# Altium schematic symbol library NIM_to_LVCMOS_Schlib.SchLib: 31 symbols
Pins are listed as number, name and electrical type; pins without a type are passive.

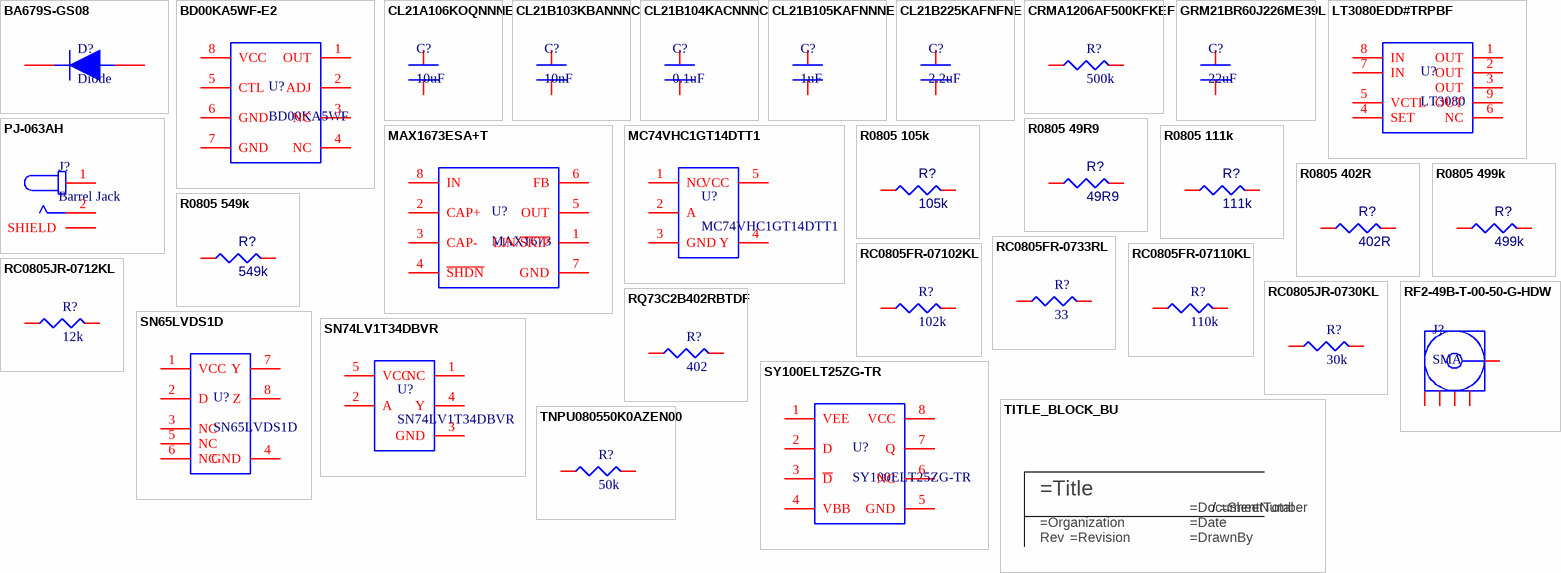
[diagram p0: symbols BA679S-GS08 to TNPU080550K0AZEN00]

## BA679S-GS08
designator D?, comment Diode
Diode PIN Attenuator 30V 2-Pin Mini-MELF SOD-80 T/R; Manufacturer: Vishay Semiconductors; Manufacturer Part Number: BA679S-GS08; Forward Voltage: 1V; Forward Current: 50mA; Current Rating: 50A; Element Configuration: Single; Diode Type: PIN - Single; Supplier 1: Digi-Key; RoHS: Yes; Category: Diodes; Stock 1: 7528; Pricing 1: 1=0.53000, 10=0.43000, 100=0.29270, 500=0.21954, 1000=0.16466 (USD); Mount: Surface Mount; Number of Pins: 2; Contact Plating: Tin,Silver; Min Operating Temperature: -55°C; Max Operating Temperature: 125°C; Packaging: Tape and Reel; Package Quantity: 2500; Reverse Voltage (DC): 30V; Max Current Rating: 50mA; Max Repetitive Reverse Voltage (Vrrm): 30V; Reverse Voltage: 30V; Series: -; RoHS Compliant: Yes; ComponentLink1URL: https://datasheet.ciiva.com/1240/1749354-1240855.pdf?src-supplier=Newark; ComponentLink1Description: https://datasheet.ciiva.com/1240/1749354-1240855.pdf?src-supplier=Newark; ComponentLink2URL: https://datasheet.ciiva.com/9424/ba679-9424319.pdf?src-supplier=Avnet; ComponentLink2Description: https://datasheet.ciiva.com/9424/ba679-9424319.pdf?src-supplier=Avnet; ComponentLink3URL: https://datasheet.ciiva.com/1179/ba679-1179241.pdf?src-supplier=Element14; ComponentLink3Description: https://datasheet.ciiva.com/1179/ba679-1179241.pdf?src-supplier=Element14; Supplier Part Number 1: 112-BA679S-GS08CT-ND
footprint BA679S-GS08 (MELF Diode, 2-Leads, Body 3.50x1.50mm, IPC Medium Density)
pins: 1, 2

## BD00KA5WF-E2
designator U?, comment BD00KA5WF
LDO Regulator Pos 1V to 4V 0.5A Automotive 8-Pin SOP T/R; Manufacturer: Rohm; Manufacturer Part Number: BD00KA5WF-E2; Output Current: 500mA; Dropout Voltage: 120mV; Number of Outputs: 1; Min Input Voltage: 2.3V; Max Input Voltage: 5.5V; Max Power Dissipation: 687.6mW; Reference Voltage: 758mV; Polarity: Positive; Output Type: Adjustable; Supplier 1: Digi-Key; RoHS: Yes; Category: Voltage Regulators - Linear; Stock 1: 9113; Pricing 1: 1=1.69000, 10=1.50700, 25=1.43040, 100=1.17510, 250=1.09848, 500=0.97074, 1000=0.76638 (USD); Mount: Surface Mount; Case/Package: SOP; Number of Pins: 8; Contact Plating: Copper,Tin; Min Operating Temperature: -40°C; Max Operating Temperature: 105°C; Packaging: Tape and Reel; Max Output Current: 500mA; Output Voltage: 4V; Package Quantity: 1; Number of Regulators: 1; Min Output Voltage: 1V; Max Output Voltage: 4V; Series: -; Radiation Hardening: No; Lead Free: Lead Free; RoHS Compliant: Yes; ComponentLink1URL: https://datasheet.ciiva.com/26878/getdatasheetpartid-457808-26878767.pdf?src-supplier=Verical; ComponentLink1Description: https://datasheet.ciiva.com/26878/getdatasheetpartid-457808-26878767.pdf?src-supplier=Verical; ComponentLink2URL: https://datasheet.ciiva.com/22732/1747249-22732896.pdf?src-supplier=Element14; ComponentLink2Description: https://datasheet.ciiva.com/22732/1747249-22732896.pdf?src-supplier=Element14; ComponentLink3URL: https://datasheet.ciiva.com/2040/bdxxka5-e-2040541.pdf?src-supplier=Digi-Key; ComponentLink3Description: https://datasheet.ciiva.com/2040/bdxxka5-e-2040541.pdf?src-supplier=Digi-Key; ComponentLink4URL: https://datasheet.ciiva.com/2040/bdxxka5-e-2040542.pdf?src-supplier=Digi-Key; ComponentLink4Description: https://datasheet.ciiva.com/2040/bdxxka5-e-2040542.pdf?src-supplier=Digi-Key; ComponentLink5URL: https://datasheet.ciiva.com/2040/bdxxka5-e-2040543.pdf?src-supplier=Digi-Key; ComponentLink5Description: https://datasheet.ciiva.com/2040/bdxxka5-e-2040543.pdf?src-supplier=Digi-Key; Supplier Part Number 1: BD00KA5WF-E2CT-ND
footprint BD00KA5WF-E2 (TSOP, 8-Leads, Body 5.00x4.40mm, Pitch 1.27mm, IPC Medium Density)
pins: 1 OUT, 2 ADJ, 3 NC, 4 NC, 5 CTL, 6 GND, 7 GND, 8 VCC

## CL21A106KOQNNNE
designator C?, comment 10uF
CAP CER 10UF 25V X7R 0805; Manufacturer: Samsung; Manufacturer Part Number: CL21A106KOQNNNE; Tolerance: 10%; Voltage Rating: 16V; Supplier 1: Newark; RoHS: Yes; Category: Ceramic Capacitors; Stock 1: 82000; Pricing 1: 1=0.00800, 2000=0.00800, 4000=0.00800 (USD); Mount: Surface Mount; Case/Package: 0805; Case Code (Metric): 2012; Case Code (Imperial): 0805; Min Operating Temperature: -55°C; Max Operating Temperature: 85°C; Package Quantity: 1; Packaging: Tape and Reel; Capacitance: 10uF; Dielectric: X7R; Voltage Rating (DC): 16V; Series: CL; Construction: Flat; Voltage: 16V; Length: 2mm; Width: 0.049inch; Height: 1.25mm; Thickness: 0.055inch; Depth: 1.25mm; Radiation Hardening: No; Lead Free: Lead Free; RoHS Compliant: Yes; Supplier Part Number 1: 82AC9390
footprint CL21A106KOQNNNE (10uF Chip Capacitor, 2-Leads, Body 2.00x1.25mm, IPC Medium Density)
pins: 1, 2

## CL21B103KBANNNC
designator C?, comment 10nF
CAP CER 10000PF 50V X7R 0805; Manufacturer: Samsung; Manufacturer Part Number: CL21B103KBANNNC; Material: Ceramic; Tolerance: 10%; Supplier 1: Newark; RoHS: Yes; Category: Ceramic Capacitors; Stock 1: 28000; Pricing 1: 1=0.00800, 4000=0.00800 (USD); Mount: Surface Mount; Case/Package: 0805; Case Code (Metric): 2012; Case Code (Imperial): 0805; Contact Plating: Tin; Min Operating Temperature: -55°C; Max Operating Temperature: 125°C; Capacitance: 10nF; Dielectric: X7R; Voltage: 50V; Voltage Rating (DC): 50V; Packaging: Tape and Reel; Voltage Rating: 50V; Series: CL; Construction: Flat; Length: 2mm; Width: 0.049inch; Height: 0.65mm; Depth: 1.25mm; Thickness: 0.03inch; Radiation Hardening: No; Lead Free: Lead Free; RoHS Compliant: Yes; ComponentLink1URL: https://datasheet.ciiva.com/25709/cl21b103kbannnc-25709781.pdf?src-supplier=Digi-Key; ComponentLink1Description: https://datasheet.ciiva.com/25709/cl21b103kbannnc-25709781.pdf?src-supplier=Digi-Key; ComponentLink2URL: https://datasheet.ciiva.com/29199/455082-da-01-en-vs-kondensator-0805-29199459.pdf?src-supplier=Conrad; ComponentLink2Description: https://datasheet.ciiva.com/29199/455082-da-01-en-vs-kondensator-0805-29199459.pdf?src-supplier=Conrad; Supplier Part Number 1: 82AC9416
footprint CL21B103KBANNNC (10nF Chip Capacitor, 2-Leads, Body 2.00x1.25mm, IPC Medium Density)
pins: 1, 2

## CL21B104KACNNNC
designator C?, comment 0.1uF
CAP CER 0.1UF 25V X7R 0805; Manufacturer: Samsung; Manufacturer Part Number: CL21B104KACNNNC; Capacitance: 100nF; Tolerance: 10%; Supplier 1: Newark; RoHS: Yes; Category: Ceramic Capacitors; Stock 1: 16000; Pricing 1: 1=0.00700, 4000=0.00700 (USD); Mount: Surface Mount; Case/Package: 0805; Case Code (Metric): 2012; Case Code (Imperial): 0805; Contact Plating: Tin; Min Operating Temperature: -55°C; Max Operating Temperature: 125°C; Dielectric: X7R; Package Quantity: 1; Packaging: Tape and Reel; Voltage Rating: 25V; Voltage: 25V; Series: CL; Construction: Flat; Length: 2mm; Width: 0.049inch; Height: 0.85mm; Depth: 1.25mm; Thickness: 0.037inch; Radiation Hardening: No; RoHS Compliant: Yes; ComponentLink1URL: https://datasheet.ciiva.com/25801/cl21b104kacnnnc-25801824.pdf?src-supplier=Digi-Key; ComponentLink1Description: https://datasheet.ciiva.com/25801/cl21b104kacnnnc-25801824.pdf?src-supplier=Digi-Key; ComponentLink2URL: https://datasheet.ciiva.com/15216/getdatasheetpartid-355204-15216236.pdf?src-supplier=Verical; ComponentLink2Description: https://datasheet.ciiva.com/15216/getdatasheetpartid-355204-15216236.pdf?src-supplier=Verical; Supplier Part Number 1: 82AC9426
footprint CL21B104KACNNNC (0.1uF Chip Capacitor, 2-Leads, Body 2.00x1.25mm, IPC Medium Density)
pins: 1, 2

## CL21B105KAFNNNE
designator C?, comment 1uF
CAP CER 1UF 25V X7R 0805; Manufacturer: Samsung; Manufacturer Part Number: CL21B105KAFNNNE; Tolerance: 10%; Supplier 1: Newark; RoHS: Yes; Category: Ceramic Capacitors; Stock 1: 8000; Pricing 1: 1=0.01400, 40000=0.01100, 44000=0.01100, 84000=0.01000 (USD); Mount: Surface Mount; Case/Package: 0805; Case Code (Metric): 2012; Case Code (Imperial): 0805; Contact Plating: Tin; Min Operating Temperature: -55°C; Max Operating Temperature: 125°C; Capacitance: 1uF; Dielectric: X7R; Voltage: 25V; Voltage Rating (DC): 25V; Packaging: Tape and Reel; Voltage Rating: 25V; Package Quantity: 1; Series: CL; Construction: Flat; Length: 2mm; Width: 0.049inch; Height: 1.25mm; Depth: 1.25mm; Thickness: 0.053inch; Radiation Hardening: No; Lead Free: Lead Free; RoHS Compliant: Yes; ComponentLink1URL: https://datasheet.ciiva.com/25800/cl21b105kafnnne-25800163.pdf?src-supplier=Digi-Key; ComponentLink1Description: https://datasheet.ciiva.com/25800/cl21b105kafnnne-25800163.pdf?src-supplier=Digi-Key; ComponentLink2URL: https://datasheet.ciiva.com/15195/getdatasheetpartid-355205-15195880.pdf?src-supplier=Verical; ComponentLink2Description: https://datasheet.ciiva.com/15195/getdatasheetpartid-355205-15195880.pdf?src-supplier=Verical; Supplier Part Number 1: 82AC9434
footprint CL21B105KAFNNNE (1uF Chip Capacitor, 2-Leads, Body 2.00x1.25mm, IPC Medium Density)
pins: 1, 2

## CL21B225KAFNFNE
designator C?, comment 2.2uF
CAP CER 2.2UF 25V X7R 0805; Manufacturer: Samsung; Manufacturer Part Number: CL21B225KAFNFNE; Tolerance: 10%; Supplier 1: Avnet; RoHS: Yes; Category: Ceramic Capacitors; Stock 1: 46000; Pricing 1: 2000=0.02328, 4000=0.02275, 8000=0.02221, 12000=0.02168, 16000=0.02114 (USD); Mount: Surface Mount; Case/Package: 0805; Case Code (Metric): 2012; Case Code (Imperial): 0805; Min Operating Temperature: -55°C; Max Operating Temperature: 125°C; Package Quantity: 1; Packaging: Tape and Reel; Capacitance: 2.2uF; Voltage Rating: 25V; Dielectric: X7R; Series: CL; Construction: Flat; Length: 0.079inch; Width: 0.049inch; Height: 1.25mm; Thickness: 0.053inch; Depth: 1.25mm; Radiation Hardening: No; Lead Free: Lead Free; RoHS Compliant: Yes; ComponentLink1URL: https://datasheet.ciiva.com/25798/cl21b225kafnfne-25798721.pdf?src-supplier=Digi-Key; ComponentLink1Description: https://datasheet.ciiva.com/25798/cl21b225kafnfne-25798721.pdf?src-supplier=Digi-Key; Supplier Part Number 1: CL21B225KAFNFNE
footprint CL21B225KAFNFNE (2.2uF Chip Capacitor, 2-Leads, Body 2.00x1.25mm, IPC Medium Density)
pins: 1, 2

## CRMA1206AF500KFKEF
designator R?, comment 500k
Res Thick Film 1206 500K Ohm 1% 0.3W ±100ppm/°C Pad SMD Automotive T/R; Manufacturer: Vishay BCcomponents; Manufacturer Part Number: CRMA1206AF500KFKEF; Resistance: 500kR; Max Power Dissipation: 300mW; Supplier 1: Newark; RoHS: No; Category: Chip SMD Resistors; Stock 1: 6690; Pricing 1: 10=0.51800, 25=0.43700, 50=0.35700, 100=0.27600 (USD); Case/Package: 1206; Case Code (Imperial): 1206; Case Code (Metric): 3216; Min Operating Temperature: -55°C; Max Operating Temperature: 155°C; Resistor Type: Thick Film; Features: Automotive AEC-Q200; Packaging: Cut Tape; Tolerance: 1%; Temperature Coefficient: 100ppm/°C; Number of Terminations: 2; ComponentLink1URL: https://www.vishay.com/docs/68043/crma.pdf?src-supplier=Digi-Key; ComponentLink1Description: https://www.vishay.com/docs/68043/crma.pdf?src-supplier=Digi-Key; Supplier Part Number 1: 71AH3168
footprint CRMA1206AF500KFKEF (500k Chip Resistor, 2-Leads, Body 3.18x1.60mm, IPC Medium Density)
pins: 1, 2

## GRM21BR60J226ME39L
designator C?, comment 22uF
Multilayer Ceramic Capacitors MLCC Surface Mount 0805 22uF 6.3 Volts X5R 20%; Manufacturer: Murata; Manufacturer Part Number: GRM21BR60J226ME39L; Voltage Rating: 6.3V; Supplier 1: Newark; RoHS: Yes; Category: Ceramic Capacitors; Stock 1: 5011; Pricing 1: 1=0.30000, 25=0.16900, 50=0.14500, 100=0.12100, 250=0.10500, 500=0.08800 (USD); Mount: Surface Mount; Case/Package: 0805; Case Code (Metric): 2012; Case Code (Imperial): 0805; Material: Ceramic; Min Operating Temperature: -55°C; Max Operating Temperature: 85°C; Capacitance: 22uF; Tolerance: 20%; Packaging: Tape and Reel; Package Quantity: 1; Voltage Rating (DC): 6.3V; Termination: SMD/SMT; Voltage: 6.3V; Series: GRM; Construction: Flat; Dielectric: X5R; Length: 2mm; Width: 0.049inch; Height: 1.25mm; Depth: 1.25mm; Thickness: 0.053inch; Radiation Hardening: No; Reach SVHC Compliant: Yes; Lead Free: Lead Free; RoHS Compliant: Yes; Supplier Part Number 1: 24R6338
footprint GRM21BR60J226ME39L (22uF Chip Capacitor, 2-Leads, Body 2.00x1.25mm, IPC Medium Density)
pins: 1, 2

## LT3080EDD#TRPBF
designator U?, comment LT3080
IC REG LDO ADJ 1.1A 8DFN; Manufacturer: Analog Devices / Linear Technology; Manufacturer Part Number: LT3080EDD#TRPBF; Output Voltage: 36V; Number of Outputs: 1; Dropout Voltage: 1.35V; Min Input Voltage: 1.2V; Polarity: Positive; Quiescent Current: 500uA; Output Voltage Accuracy: 1%; Operating Supply Current: 300uA; Supplier 1: Digi-Key; RoHS: Yes; Category: Voltage Regulators - Linear; Stock 1: 45974; Pricing 1: 1=6.40000, 10=5.75200, 25=5.43760, 100=4.71280, 250=4.47108, 500=4.01188, 1000=3.42000 (USD); Case/Package: DFN; Number of Pins: 8; Min Operating Temperature: -40°C; Max Operating Temperature: 125°C; Output Current: 1.1A; Package Quantity: 1; Packaging: Tape and Reel; Max Input Voltage: 36V; Number of Regulators: 1; Min Current Limit: 1.1A; Series: -; RoHS Compliant: Yes; ComponentLink1URL: https://datasheet.ciiva.com/2041/25276-2041434.pdf?src-supplier=Digi-Key; ComponentLink1Description: https://datasheet.ciiva.com/2041/25276-2041434.pdf?src-supplier=Digi-Key; ComponentLink2URL: https://datasheet.ciiva.com/2041/25276-2041435.pdf?src-supplier=Digi-Key; ComponentLink2Description: https://datasheet.ciiva.com/2041/25276-2041435.pdf?src-supplier=Digi-Key; Supplier Part Number 1: LT3080EDD#TRPBFCT-ND
footprint LT3080EDD (SON, 8-Leads, Body 3.00x3.00mm, Pitch 0.50mm, Thermal Pad 2.38x0.99mm, IPC Medium Density)
pins: 1 OUT, 2 OUT, 3 OUT, 4 SET, 5 VCTL, 6 NC, 7 IN, 8 IN, 9 OUT

## MAX1673ESA+T
designator U?, comment MAX1673
5.5 V 125 mA 460kHz Charge Pump SMT Switching Regulator - SOIC-8; Manufacturer: Maxim; Manufacturer Part Number: MAX1673ESA+T; Output Voltage: -3.15V; Logic Function: Inverting; Number of Outputs: 1; Max Input Voltage: 5.5V; Output Current: 125mA; Switching Frequency: 350kHz; Synchronous Rectifier: No; Output Type: Adjustable; Supplier 1: Arrow Electronics; RoHS: Yes; Category: Voltage Regulators - Switching; Stock 1: 1576; Pricing 1: 1=6.45840, 10=5.76150, 25=5.40040, 100=4.64370, 250=4.36660, 500=3.88360, 1000=3.47760 (USD); Mount: Surface Mount; Case/Package: SOIC; Min Operating Temperature: -40°C; Max Operating Temperature: 85°C; Package Quantity: 2500; Packaging: Tape and Reel; Series: -; Width: 4mm; Radiation Hardening: No; Lead Free: Lead Free; RoHS Compliant: Yes; ComponentLink1URL: https://datasheet.ciiva.com/24013/max1673-85133-24013456.pdf?src-supplier=Mouser; ComponentLink1Description: https://datasheet.ciiva.com/24013/max1673-85133-24013456.pdf?src-supplier=Mouser; ComponentLink2URL: https://datasheet.ciiva.com/3216/max1673-3216094.pdf?src-supplier=Avnet; ComponentLink2Description: https://datasheet.ciiva.com/3216/max1673-3216094.pdf?src-supplier=Avnet; ComponentLink3URL: https://datasheet.ciiva.com/2037/max1673-2037237.pdf?src-supplier=Digi-Key; ComponentLink3Description: https://datasheet.ciiva.com/2037/max1673-2037237.pdf?src-supplier=Digi-Key; Supplier Part Number 1: MAX1673ESA+T
footprint MAX1673ESA+T (SOIC, 8-Leads, Body 4.90x3.90mm, Pitch 1.27mm, IPC Medium Density)
pins: 1 LIN/~{SKIP}, 2 CAP+, 3 CAP-, 4 ~{SHDN}, 5 OUT, 6 FB, 7 GND, 8 IN

## MC74VHC1GT14DTT1
designator U?
Inverter Schmitt Trigger Sgl Cmos 5TSOP; Manufacturer: ON Semiconductor; Max Supply Voltage: 5.5V; Min Supply Voltage: 3V; Number of Inputs: 1; Output Current: 8mA; Logic Function: Schmitt Trigger,Inverter; High Level Output Current: -8mA; Supplier 1: Mouser; Manufacturer Part Number: MC74VHC1GT14DTT1; RoHS: No; Category: Logic Gates; Case/Package: SOT-23-5; Number of Pins: 5; Min Operating Temperature: -55°C; Max Operating Temperature: 125°C; Package Quantity: 3000; Packaging: Tape and Reel; Number of Circuits: 1; Low Level Output Current: 8mA; Number of Gates: 1; RoHS Compliant: No; Reach SVHC Compliant: Yes; Lead Free: Contains Lead; ComponentLink1URL: https://datasheet.ciiva.com/4828/mc74vhc1gt14-d-107443-4828755.pdf?src-supplier=Mouser; ComponentLink1Description: https://datasheet.ciiva.com/4828/mc74vhc1gt14-d-107443-4828755.pdf?src-supplier=Mouser; ComponentLink2URL: https://datasheet.ciiva.com/7970/mc74vhc1gt14-d-7970445.pdf?src-supplier=Element14; ComponentLink2Description: https://datasheet.ciiva.com/7970/mc74vhc1gt14-d-7970445.pdf?src-supplier=Element14; Supplier Part Number 1: 863-MC74VHC1GT14DTT1
footprint MC74VHC1GT14DTT1
pins: 1 NC, 2 A, 3 GND, 4 Y, 5 VCC

## PJ-063AH
designator J?, comment Barrel Jack
2.0 x 6.5 mm, 8.0 A, Horizontal, Through Hole, Shielded, Kinked Pins, Dc Power Jack Connector; Manufacturer: CUI; Manufacturer Part Number: PJ-063AH; Gender: Male; Current Rating: 8A; Voltage Rating: 24V; Insulation Resistance: 100MR; Number of Conductors: 2; Supplier 1: Mouser; RoHS: Yes; Category: Connectors; Mount: Through Hole; Contact Material: Copper; Contact Plating: Nickel; Housing Color: Black; Housing Material: Thermoplastic; Min Operating Temperature: -25°C; Max Operating Temperature: 85°C; Package Quantity: 500; Shielding: Shielded; Termination: Through Hole; Connector Type: Jack; Contact Gender: Male; Series: -; Orientation: Horizontal; Flammability Rating: UL94 V-0; Lead Free: Lead Free; RoHS Compliant: Yes; ComponentLink1URL: https://www.cui.com/product/resource/digikeypdf/pj-063ah.pdf?src-supplier=Digi-Key; ComponentLink1Description: https://www.cui.com/product/resource/digikeypdf/pj-063ah.pdf?src-supplier=Digi-Key; ComponentLink2URL: https://www.cui.com/product/resource/digikeypdf/pj-063ah.pdf?src-supplier=Arrow+Electronics; ComponentLink2Description: https://www.cui.com/product/resource/digikeypdf/pj-063ah.pdf?src-supplier=Arrow+Electronics; ComponentLink3URL: https://www.cui.com/product/resource/digikeypdf/pj-063ah.pdf?src-supplier=Mouser; ComponentLink3Description: https://www.cui.com/product/resource/digikeypdf/pj-063ah.pdf?src-supplier=Mouser; ComponentLink4URL: https://www.cui.com/product/resource/digikeypdf/pj-063ah.pdf?src-supplier=Onlinecomponents.com; ComponentLink4Description: https://www.cui.com/product/resource/digikeypdf/pj-063ah.pdf?src-supplier=Onlinecomponents.com; ComponentLink5URL: http://www.cui.com/Product/Resource/FuturePDF/PJ-063AH.pdf?src-supplier=Future+Electronics; ComponentLink5Description: http://www.cui.com/Product/Resource/FuturePDF/PJ-063AH.pdf?src-supplier=Future+Electronics; ComponentLink6URL: https://www.cui.com/product/resource/digikeypdf/pj-063ah.pdf?src-supplier=Verical; ComponentLink6Description: https://www.cui.com/product/resource/digikeypdf/pj-063ah.pdf?src-supplier=Verical; ComponentLink7URL: https://www.cui.com/product/resource/digikeypdf/pj-063ah.pdf?src-supplier=Quest; ComponentLink7Description: https://www.cui.com/product/resource/digikeypdf/pj-063ah.pdf?src-supplier=Quest; ComponentLink8URL: https://www.cui.com/product/resource/digikeypdf/pj-063ah.pdf?src-supplier=NAC+Semi; ComponentLink8Description: https://www.cui.com/product/resource/digikeypdf/pj-063ah.pdf?src-supplier=NAC+Semi; Supplier Part Number 1: 490-PJ-063AH
footprint PJ-063AH
pins: 1, 2, S1 SHIELD (power), S2 SHIELD (power)

## R0805 49R9
designator R?, comment 49R9
49.9 kOhms ±1% 0.125W, 1/8W Chip Resistor 0805 (2012 Metric) Moisture Resistant Thick Film; Manufacturer Part Number: RC0805FR-0749K9L
footprint R0805 (102k Chip Resistor, 2-Leads, Body 2.00x1.25mm, IPC Medium Density)
pins: 1, 2

## R0805 105k
designator R?, comment 105k
105 kOhms ±1% 0.125W, 1/8W Chip Resistor 0805 (2012 Metric); Manufacturer Part Number: RMCF0805FT105K
footprint R0805 (102k Chip Resistor, 2-Leads, Body 2.00x1.25mm, IPC Medium Density)
pins: 1, 2

## R0805 111k
designator R?, comment 111k
111 kOhms ±1% 0.125W, 1/8W Chip Resistor 0805 (2012 Metric); Manufacturer Part Number: RNCP0805FTD11K0
footprint R0805 (102k Chip Resistor, 2-Leads, Body 2.00x1.25mm, IPC Medium Density)
pins: 1, 2

## R0805 402R
designator R?, comment 402R
402 Ohms ±1% 0.125W, 1/8W Chip Resistor 0805 (2012 Metric) Moisture Resistant Thick Film; Manufacturer Part Number: RC0805FR-07402RL
footprint R0805 (102k Chip Resistor, 2-Leads, Body 2.00x1.25mm, IPC Medium Density)
pins: 1, 2

## R0805 499k
designator R?, comment 499k
499k kOhms ±1% 0.125W, 1/8W Chip Resistor 0805 (2012 Metric); Manufacturer Part Number: RC0805FR-07499KL
footprint R0805 (102k Chip Resistor, 2-Leads, Body 2.00x1.25mm, IPC Medium Density)
pins: 1, 2

## R0805 549k
designator R?, comment 549k
549 kOhms ±1% 0.125W, 1/8W Chip Resistor 0805 (2012 Metric); Manufacturer Part Number: KTR10EZPF5493
footprint R0805 (102k Chip Resistor, 2-Leads, Body 2.00x1.25mm, IPC Medium Density)
pins: 1, 2

## RC0805FR-0733RL
designator R?, comment 33
Res Thick Film 0805 33 Ohm 1% 1/8W +/-100ppm/ßC Molded SMD Paper T/R; Manufacturer: Yageo; Manufacturer Part Number: RC0805FR-0733RL; Resistance: 33R; Power Rating: 125mW; Voltage Rating: 150V; Temperature Coefficient: 100ppm/°C; Supplier 1: Avnet; RoHS: Yes; Category: Chip SMD Resistors; Stock 1: 25000; Pricing 1: 5000=0.00227, 10000=0.00224, 20000=0.00217 (USD); Case/Package: 0805; Case Code (Imperial): 0805; Case Code (Metric): 2012; Size Code: 0805; Min Operating Temperature: -55°C; Max Operating Temperature: 155°C; Packaging: Tape and Reel; Tolerance: 1%; Package Quantity: 1; Termination: SMD/SMT; Resistor Type: Thick Film; Number of Terminations: 2; Max Power Dissipation: 125mW; Features: Moisture Resistant; Series: RC; Construction: Rectangular; Resistance Tolerance: 1%; Technology: THICK FILM; Length: 2mm; Width: 0.049inch; Height: 0.5mm; Depth: 1.25mm; Military Standard: Not; Lead Free: Lead Free; RoHS Compliant: Yes; ComponentLink1URL: https://datasheet.ciiva.com/11808/0900766b8106beab-11808886.pdf?src-supplier=RSComponents; ComponentLink1Description: https://datasheet.ciiva.com/11808/0900766b8106beab-11808886.pdf?src-supplier=RSComponents; ComponentLink2URL: https://datasheet.ciiva.com/46447/444164-46447578.pdf?src-supplier=Element14; ComponentLink2Description: https://datasheet.ciiva.com/46447/444164-46447578.pdf?src-supplier=Element14; ComponentLink3URL: https://datasheet.ciiva.com/2457/pyu-r-int-thick-7-2457741.pdf?src-supplier=Digi-Key; ComponentLink3Description: https://datasheet.ciiva.com/2457/pyu-r-int-thick-7-2457741.pdf?src-supplier=Digi-Key; ComponentLink4URL: https://datasheet.ciiva.com/2457/pyu-r-int-thick-7-2457742.pdf?src-supplier=Digi-Key; ComponentLink4Description: https://datasheet.ciiva.com/2457/pyu-r-int-thick-7-2457742.pdf?src-supplier=Digi-Key; ComponentLink5URL: https://datasheet.ciiva.com/2457/pyu-r-int-thick-7-2457740.pdf?src-supplier=Digi-Key; ComponentLink5Description: https://datasheet.ciiva.com/2457/pyu-r-int-thick-7-2457740.pdf?src-supplier=Digi-Key; ComponentLink6URL: https://datasheet.ciiva.com/5561/rc0805-257173-5561849.pdf?src-supplier=Mouser; ComponentLink6Description: https://datasheet.ciiva.com/5561/rc0805-257173-5561849.pdf?src-supplier=Mouser; ComponentLink7URL: https://datasheet.ciiva.com/7941/444164-7941773.pdf?src-supplier=Element14; ComponentLink7Description: https://datasheet.ciiva.com/7941/444164-7941773.pdf?src-supplier=Element14; ComponentLink8URL: https://datasheet.ciiva.com/7941/444164-7941772.pdf?src-supplier=Element14; ComponentLink8Description: https://datasheet.ciiva.com/7941/444164-7941772.pdf?src-supplier=Element14; ComponentLink9URL: https://datasheet.ciiva.com/17486/rc0805-17486554.pdf?src-supplier=Future+Electronics; ComponentLink9Description: https://datasheet.ciiva.com/17486/rc0805-17486554.pdf?src-supplier=Future+Electronics; Supplier Part Number 1: RC0805FR-0733RL
footprint R0805 (102k Chip Resistor, 2-Leads, Body 2.00x1.25mm, IPC Medium Density)
pins: 1, 2

## RC0805FR-07102KL
designator R?, comment 102k
Res Thick Film 0805 102K Ohm 1% 1/8W ±100ppm/°C SMD Paper T/R; Manufacturer: Yageo; Manufacturer Part Number: RC0805FR-07102KL; Resistance: 102kR; Power Rating: 125mW; Voltage Rating: 150V; Supplier 1: Newark; RoHS: Yes; Category: Chip SMD Resistors; Stock 1: 24480; Pricing 1: 10=0.10000, 25=0.02900, 50=0.02100, 100=0.01200 (USD); Case/Package: 0805; Contact Plating: Tin,Matte,Lead; Case Code (Metric): 2012; Case Code (Imperial): 0805; Min Operating Temperature: -55°C; Max Operating Temperature: 155°C; Tolerance: 1%; Resistor Type: Thick Film; Temperature Coefficient: 100ppm/°C; Package Quantity: 1; Packaging: Tape and Reel; Number of Terminations: 2; Termination: SMD/SMT; Max Power Dissipation: 125mW; Voltage Rating (DC): 150V; Features: Moisture Resistant; Series: RC; Construction: Rectangular; Length: 2mm; Width: 0.049inch; Height: 0.024inch; Depth: 1.25mm; Radiation Hardening: No; Military Standard: Not; Lead Free: Lead Free; RoHS Compliant: Yes; ComponentLink1URL: https://datasheet.ciiva.com/2457/pyu-r-int-thick-7-2457663.pdf?src-supplier=Digi-Key; ComponentLink1Description: https://datasheet.ciiva.com/2457/pyu-r-int-thick-7-2457663.pdf?src-supplier=Digi-Key; ComponentLink2URL: https://datasheet.ciiva.com/2457/pyu-r-int-thick-7-2457664.pdf?src-supplier=Digi-Key; ComponentLink2Description: https://datasheet.ciiva.com/2457/pyu-r-int-thick-7-2457664.pdf?src-supplier=Digi-Key; ComponentLink3URL: https://datasheet.ciiva.com/2457/pyu-r-int-thick-7-2457662.pdf?src-supplier=Digi-Key; ComponentLink3Description: https://datasheet.ciiva.com/2457/pyu-r-int-thick-7-2457662.pdf?src-supplier=Digi-Key; Supplier Part Number 1: 32AK1123
footprint R0805 (102k Chip Resistor, 2-Leads, Body 2.00x1.25mm, IPC Medium Density)
pins: 1, 2

## RC0805FR-07110KL
designator R?, comment 110k
Res Thick Film 0805 110K Ohm 1% 0.125W(1/8W) ±100ppm/C Pad SMD T/R; Manufacturer: Yageo; Manufacturer Part Number: RC0805FR-07110KL; Resistance: 110kR; Temperature Coefficient: 100ppm/°C; Voltage Rating (DC): 150V; Power Rating: 125mW; Supplier 1: Newark; RoHS: Yes; Category: Chip SMD Resistors; Stock 1: 13240; Pricing 1: 1=0.10000, 25=0.02900, 50=0.02100, 100=0.01200 (USD); Mount: Surface Mount; Case/Package: 0805; Case Code (Imperial): 0805; Case Code (Metric): 2012; Min Operating Temperature: -55°C; Max Operating Temperature: 155°C; Tolerance: 1%; Resistor Type: Thick Film; Packaging: Tape and Reel; Voltage Rating: 150V; Package Quantity: 5000; Termination: SMD/SMT; Number of Terminations: 2; Max Power Dissipation: 125mW; Working Voltage: 150V; Features: Moisture Resistant; Series: RC; Technology: THICK FILM; Construction: Rectangular; Length: 2mm; Width: 0.049inch; Height: 0.024inch; Depth: 1.25mm; Lead Free: Lead Free; Military Standard: Not; RoHS Compliant: Yes; ComponentLink1URL: https://datasheet.ciiva.com/11819/0900766b8106beab-11819792.pdf?src-supplier=RSComponents; ComponentLink1Description: https://datasheet.ciiva.com/11819/0900766b8106beab-11819792.pdf?src-supplier=RSComponents; Supplier Part Number 1: 49AK3036
footprint R0805 (102k Chip Resistor, 2-Leads, Body 2.00x1.25mm, IPC Medium Density)
pins: 1, 2

## RC0805JR-0712KL
designator R?, comment 12k
Res Thick Film 0805 12K Ohm 5% 0.125W(1/8W) ±100ppm/C Pad SMD T/R; Manufacturer: Yageo; Manufacturer Part Number: RC0805JR-0712KL; Resistance: 12kR; Temperature Coefficient: 100ppm/°C; Power Rating: 125mW; Voltage Rating: 150V; Supplier 1: Newark; RoHS: Yes; Category: Chip SMD Resistors; Stock 1: 2308; Pricing 1: 10=0.10000, 25=0.02900, 50=0.02100, 100=0.01300, 250=0.01200, 500=0.01100 (USD); Case/Package: 0805; Contact Plating: Tin,Lead; Case Code (Imperial): 0805; Case Code (Metric): 2012; Size Code: 0805; Min Operating Temperature: -55°C; Max Operating Temperature: 155°C; Tolerance: 5%; Resistor Type: Thick Film; Packaging: Cut Tape; Package Quantity: 5000; Termination: SMD/SMT; Features: Moisture Resistant; Series: RC; Max Power Dissipation: 125mW; Number of Terminations: 2; Construction: Rectangular; Resistance Tolerance: 5%; Length: 2mm; Width: 1.25mm; Height: 0.5mm; Depth: 1.25mm; Radiation Hardening: No; Lead Free: Lead Free; Military Standard: Not; RoHS Compliant: Yes; ComponentLink1URL: https://datasheet.ciiva.com/7941/442941-7941880.pdf?src-supplier=Element14; ComponentLink1Description: https://datasheet.ciiva.com/7941/442941-7941880.pdf?src-supplier=Element14; ComponentLink2URL: https://datasheet.ciiva.com/7941/442941-7941881.pdf?src-supplier=Element14; ComponentLink2Description: https://datasheet.ciiva.com/7941/442941-7941881.pdf?src-supplier=Element14; ComponentLink3URL: https://datasheet.ciiva.com/17082/rc0805-17082649.pdf?src-supplier=Future+Electronics; ComponentLink3Description: https://datasheet.ciiva.com/17082/rc0805-17082649.pdf?src-supplier=Future+Electronics; Supplier Part Number 1: 26M6818
footprint R0805 (102k Chip Resistor, 2-Leads, Body 2.00x1.25mm, IPC Medium Density)
pins: 1, 2

## RC0805JR-0730KL
designator R?, comment 30k
Res Thick Film 0805 30K Ohm 5% 0.125W(1/8W) ±100ppm/C Pad SMD T/R; Manufacturer: Yageo; Manufacturer Part Number: RC0805JR-0730KL; Resistance: 30kR; Temperature Coefficient: 100ppm/°C; Power Rating: 125mW; Voltage Rating: 150V; Supplier 1: Newark; RoHS: Yes; Category: Chip SMD Resistors; Stock 1: 4349; Pricing 1: 10=0.01500, 25=0.01200, 50=0.00900, 100=0.00600 (USD); Case/Package: 0805; Contact Plating: Tin,Lead,Matte; Case Code (Imperial): 0805; Case Code (Metric): 2012; Size Code: 0805; Min Operating Temperature: -55°C; Max Operating Temperature: 155°C; Tolerance: 5%; Resistor Type: Thick Film; Packaging: Tape and Reel; Termination: SMD/SMT; Voltage Rating (DC): 150V; Features: Moisture Resistant; Series: RC; Max Power Dissipation: 125mW; Number of Terminations: 2; Construction: Rectangular; Length: 2mm; Depth: 1.25mm; Radiation Hardening: No; Military Standard: Not; Lead Free: Lead Free; RoHS Compliant: Yes; ComponentLink1URL: https://datasheet.ciiva.com/16747/rc0805-16747179.pdf?src-supplier=Future+Electronics; ComponentLink1Description: https://datasheet.ciiva.com/16747/rc0805-16747179.pdf?src-supplier=Future+Electronics; Supplier Part Number 1: 82AH8404
footprint R0805 (102k Chip Resistor, 2-Leads, Body 2.00x1.25mm, IPC Medium Density)
pins: 1, 2

## RF2-49B-T-00-50-G-HDW
designator J?, comment SMA
Conn SMA 0Hz to 6GHz 50Ohm Solder RA Thru-Hole RCP Gold; Manufacturer: Adam Equipment; Manufacturer Part Number: RF2-49B-T-00-50-G-HDW; Supplier 1: Arrow Electronics; RoHS: No; Category: RF / Coaxial Connectors; Stock 1: 26; Pricing 1: 1=3.05500, 10=2.75100, 25=2.58300, 50=2.49800, 100=2.35600, 300=2.04400, 500=1.97200 (USD); Supplier Part Number 1: RF2-49B-T-00-50-G-HDW
footprint RF249BT0050GHDW
pins: 1, 2, 3, 4, 5

## RQ73C2B402RBTDF
designator R?, comment 402
Res Precision Thin Film 402Ohm 0.1% 400mW 10ppm/°C 2-Pin 1206 SMD T/R; Manufacturer: TE Connectivity Holsworthy; Manufacturer Part Number: RQ73C2B402RBTDF; Supplier 1: Newark; RoHS: Yes; Category: Chip SMD Resistors; Pricing 1: 1000=0.56900, 2000=0.55200, 4000=0.53700, 6000=0.52000, 10000=0.50600 (USD); RoHS Compliant: Yes; Supplier Part Number 1: 97AC5909
footprint RQ73C2B402RBTD (402 Chip Resistor, 2-Leads, Body 3.10x1.60mm, IPC Medium Density)
pins: 1, 2

## SN65LVDS1D
designator U?
630-Mbps single LVDS driver 8-SOIC -40 to 85; Manufacturer: Texas Instruments; Data Rate: 630Mbps; Number of Receivers: 1; Operating Supply Voltage: 3.3V; Propagation Delay: 3.1ns; Max Supply Voltage: 3.6V; Min Supply Voltage: 2.4V; Power Dissipation: 725mW; Nominal Supply Current: 15mA; Supplier 1: Mouser; Manufacturer Part Number: SN65LVDS1D; RoHS: Yes; Category: Interface ICs; Stock 1: 778; Pricing 1: 1=2.57000, 10=2.32000, 25=2.19000, 50=2.19000, 75=1.86000, 100=1.86000, 300=1.74000, 525=1.53000, 1000=1.53000, 1050=1.27000, 10000=1.27000 (USD); Mount: Surface Mount; Case/Package: SOIC; Number of Pins: 8; Weight: 0.002561oz; Min Operating Temperature: -40°C; Max Operating Temperature: 85°C; Packaging: Rail/Tube; Package Quantity: 75; Number of Elements: 1; Number of Drivers: 1; Turn-On Delay Time: 3.1ns; Series: 65LVDS; Supply Current: 15mA; Max Power Dissipation: 725mW; Length: 4.9mm; Width: 3.91mm; Height: 1.58mm; Radiation Hardening: No; Lead Free: Lead Free; RoHS Compliant: Yes; Reach SVHC Compliant: Yes; ComponentLink1URL: https://datasheet.ciiva.com/15151/getdatasheetpartid-163203-15151570.pdf?src-supplier=Verical; ComponentLink1Description: https://datasheet.ciiva.com/15151/getdatasheetpartid-163203-15151570.pdf?src-supplier=Verical; ComponentLink2URL: https://datasheet.ciiva.com/1771/sn65lvds1-1771428.pdf?src-supplier=Digi-Key; ComponentLink2Description: https://datasheet.ciiva.com/1771/sn65lvds1-1771428.pdf?src-supplier=Digi-Key; ComponentLink3URL: https://datasheet.ciiva.com/3151/sn65lvdt2-3151544.pdf?src-supplier=Avnet; ComponentLink3Description: https://datasheet.ciiva.com/3151/sn65lvdt2-3151544.pdf?src-supplier=Avnet; ComponentLink4URL: https://datasheet.ciiva.com/41461/001187532-da-01-en-ic-hs-diff-line-dr-sn65lvds1d-soic-8-tid-41461269.pdf?src-supplier=Conrad; ComponentLink4Description: https://datasheet.ciiva.com/41461/001187532-da-01-en-ic-hs-diff-line-dr-sn65lvds1d-soic-8-tid-41461269.pdf?src-supplier=Conrad; Supplier Part Number 1: 595-SN65LVDS1D
footprint SN65LVDS1D (SOIC, 8-Leads, Body 4.90x3.90mm, Pitch 1.27mm, IPC Medium Density)
pins: 1 VCC, 2 D, 3 NC, 4 GND, 5 NC, 6 NC, 7 Y, 8 Z

## SN74LV1T34DBVR
designator U?
IC BUFFER GATE SGL CMOS SOT23-5; Manufacturer: Texas Instruments; Number of Elements: 1; Logic Function: Buffer,Inverting; High Level Output Current: -8mA; Low Level Output Current: 8mA; Max Supply Voltage: 5.5V; Min Supply Voltage: 1.6V; Polarity: Non-Inverting; Propagation Delay: 15.5ns; Quiescent Current: 1uA; Output Type: PUSH-PULL,3-STATE; Supplier 1: Arrow Electronics; Manufacturer Part Number: SN74LV1T34DBVR; RoHS: Yes; Category: Buffers, Drivers and Transceivers; Stock 1: 1800; Pricing 1: 1=0.51900, 10=0.42320, 100=0.26150, 500=0.21660, 1000=0.16270, 3000=0.14770 (USD); Mount: Surface Mount; Case/Package: SOT-23-5; Number of Pins: 5; Weight: 0.000353oz; Min Operating Temperature: -40°C; Max Operating Temperature: 125°C; Packaging: Tape and Reel; Number of Bits per Element: 1; Number of Bits: 1; Package Quantity: 3000; Number of Input Lines: 1; Number of Output Lines: 1; Operating Supply Current: 8mA; Number of Channels: 1; Number of Inputs: 1; Number of Outputs: 1; Series: 74LV; Technology: CMOS; Radiation Hardening: No; RoHS Compliant: Yes; Reach SVHC Compliant: Yes; Lead Free: Lead Free; ComponentLink1URL: https://datasheet.ciiva.com/29634/sn74lv1t34-29634759.pdf?src-supplier=Digi-Key; ComponentLink1Description: https://datasheet.ciiva.com/29634/sn74lv1t34-29634759.pdf?src-supplier=Digi-Key; ComponentLink2URL: https://datasheet.ciiva.com/29634/sn74lv1t34-29634758.pdf?src-supplier=Digi-Key; ComponentLink2Description: https://datasheet.ciiva.com/29634/sn74lv1t34-29634758.pdf?src-supplier=Digi-Key; ComponentLink3URL: https://datasheet.ciiva.com/29634/sn74lv1t34-29634760.pdf?src-supplier=Digi-Key; ComponentLink3Description: https://datasheet.ciiva.com/29634/sn74lv1t34-29634760.pdf?src-supplier=Digi-Key; ComponentLink4URL: https://datasheet.ciiva.com/29888/sn74lv1t34-29888041.pdf?src-supplier=Avnet; ComponentLink4Description: https://datasheet.ciiva.com/29888/sn74lv1t34-29888041.pdf?src-supplier=Avnet; Supplier Part Number 1: SN74LV1T34DBVR
footprint SN74LV1T34-DBV (SOT23, 5-Leads, Body 2.90x2.80mm, Pitch 0.95mm, IPC Medium Density)
pins: 1 NC, 2 A, 3 GND, 4 Y, 5 VCC

## SY100ELT25ZG-TR
designator U?
Dual Diff Ecl To Ttl Translator, 8 Soic 3.90Mm(.150In) T/R; Manufacturer: Microchip; Number of Channels: 1; Propagation Delay: 3.6ns; Operating Supply Voltage: 5V; Max Supply Voltage: 5.5V; Min Supply Voltage: 4.5V; Channel Type: Unidirectional; High Level Output Current: -3mA; Low Level Output Current: 24mA; Supplier 1: Digi-Key; Manufacturer Part Number: SY100ELT25ZG-TR; RoHS: Yes; Category: Clock Buffers, Drivers; Stock 1: 1000; Pricing 1: 1=4.65000, 25=3.87960, 100=3.52980 (USD); Mount: Surface Mount; Case/Package: SOIC; Number of Pins: 8; Min Operating Temperature: -40°C; Max Operating Temperature: 85°C; Package Quantity: 1000; Packaging: Tape and Reel; Number of Circuits: 1; Logic Function: Translator; Number of Bits: 1; Turn-On Delay Time: 3.6ns; Output Type: TTL; Series: 100ELT; Technology: ECL; Lead Free: Lead Free; RoHS Compliant: Yes; ComponentLink1URL: https://datasheet.ciiva.com/1901/sy100elt25-1901076.pdf?src-supplier=Digi-Key; ComponentLink1Description: https://datasheet.ciiva.com/1901/sy100elt25-1901076.pdf?src-supplier=Digi-Key; Supplier Part Number 1: 150-SY100ELT25ZG-TRCT-ND
footprint SY100ELT25ZG-TR (SOIC, 8-Leads, Body 4.89x3.90mm, Pitch 1.27mm, IPC Medium Density)
pins: 1 VEE, 2 D, 3 ~{D}, 4 VBB, 5 GND, 6 NC, 7 Q, 8 VCC

## TITLE_BLOCK_BU
designator TBLOCK?, comment BU Title block  (value not drawn)  (graphical)
text: /; Rev

## TNPU080550K0AZEN00
designator R?, comment 50k
Res Thin Film 0805 50kOhm 0.05% 1/8W ±5ppm/K Molded T/R; Manufacturer: Vishay Dale; Manufacturer Part Number: TNPU080550K0AZEN00; Resistance: 50kR; Max Power Dissipation: 125mW; Temperature Coefficient: 5ppm/°C; Supplier 1: Mouser; RoHS: No; Category: Chip SMD Resistors; Stock 1: 1217; Pricing 1: 1=2.86000, 10=2.54000, 50=2.54000, 100=2.00000, 500=1.94000, 1000=1.47000, 10000=1.47000 (USD); Case/Package: 0805; Case Code (Imperial): 0805; Case Code (Metric): 2012; Min Operating Temperature: -55°C; Max Operating Temperature: 125°C; Resistor Type: Thin Film; Features: Moisture Resistant,Automotive AEC-Q200,Anti-Sulfur; Packaging: Tape and Reel; Tolerance: 0.05%; Number of Terminations: 2; ComponentLink1URL: http://www.vishay.com/docs/28779/tnpue3.pdf?src-supplier=Digi-Key; ComponentLink1Description: http://www.vishay.com/docs/28779/tnpue3.pdf?src-supplier=Digi-Key; Supplier Part Number 1: 71-TNPU080550K0AZEN0
footprint R0805 (Footprint not found)
pins: 1, 2